# Altium footprint library ARMBands_Components_PCB.PcbLib: 12 footprints
Each footprint in its own frame and in the unit in brackets; x right, y up, seen from the top. Pads: shape width x height; smd on the part's side, far side on the other; paste and mask are expansions set on the pad; w line width, h text height; cw(c..) or ccw(c..) is an arc to the next point about the centre after c.
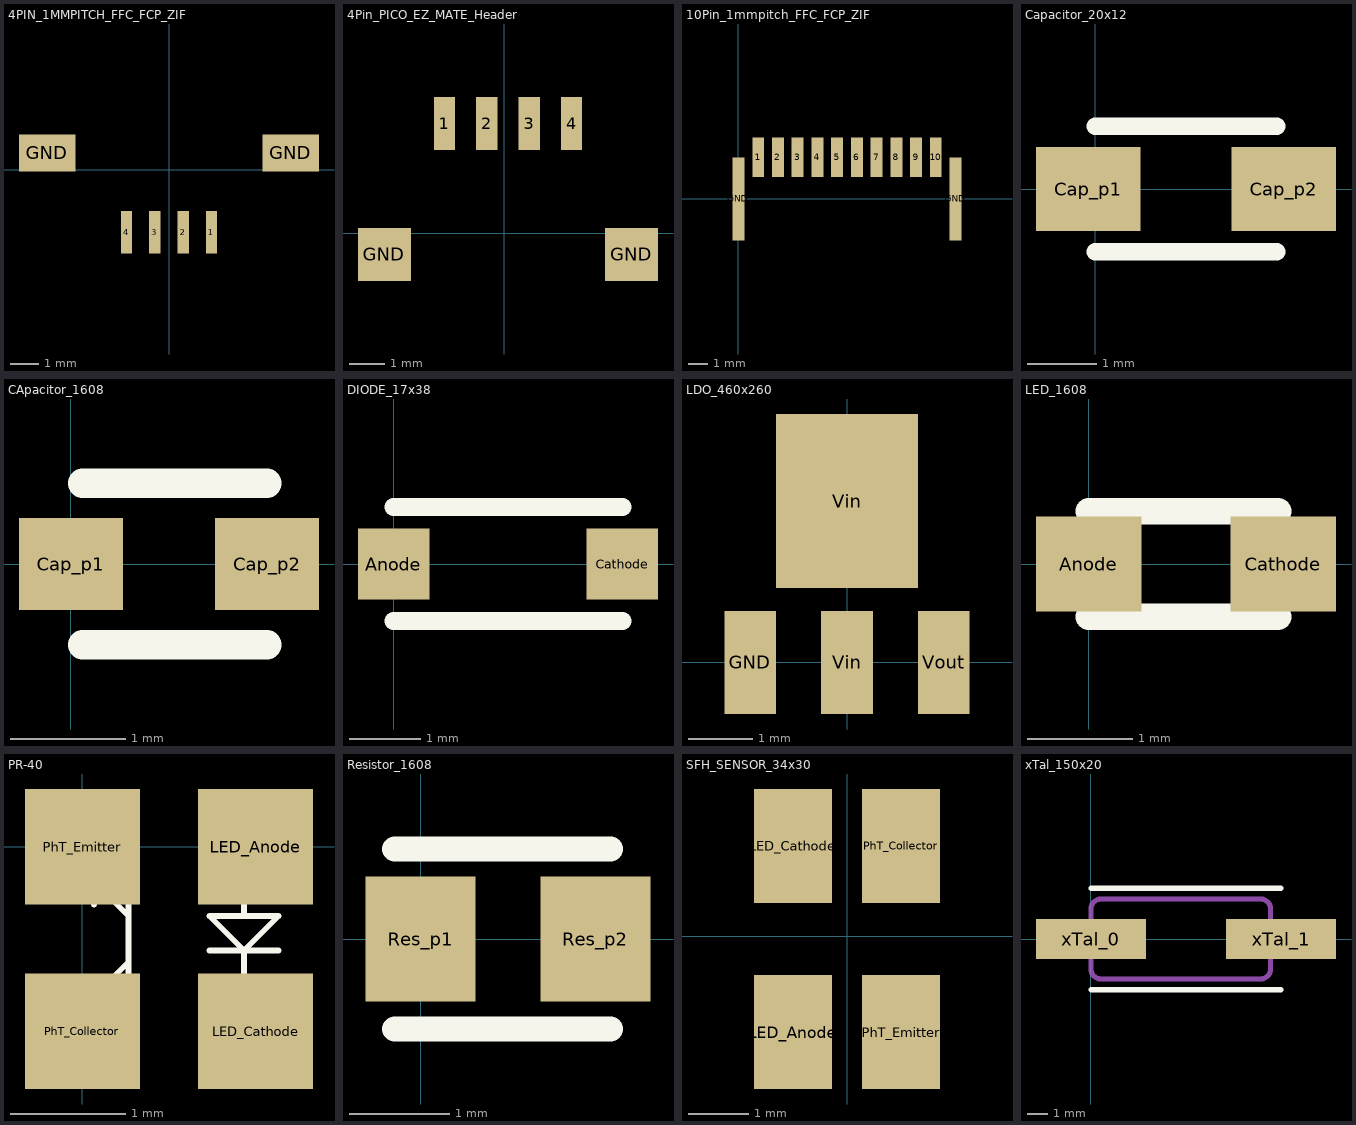
[diagram p0: the footprints below, top view; thin cyan lines are the x and y axes]

## 4PIN_1MMPITCH_FFC_FCP_ZIF [mm]
pads (6):
  rect 0.4x1.5 smd: 1(1.5,-2.2) 2(0.5,-2.2) 3(-0.5,-2.2) 4(-1.5,-2.2)
  rect 2x1.3 smd: GND(-4.3,0.6) GND(4.3,0.6)
3D body "2005290040.stp": height 1.88, standoff -0.08, extent -5,-2.55 5,2.75

## 4Pin_PICO_EZ_MATE_Header [mm]
pads (6):
  rect 0.6x1.5 smd: 1(-1.7,3.1) 2(-0.5,3.1) 3(0.7,3.1) 4(1.9,3.1)
  rect 1.5x1.5 smd: GND(-3.4,-0.6) GND(3.6,-0.6)
3D body "781710004.stp": height 1.55, standoff 0.1, extent -3.3,-1.5 3.3,3.03

## 10Pin_1mmpitch_FFC_FCP_ZIF [mm]
pads (12):
  rect 0.6x2 smd: 1(1,2.1) 2(2,2.1) 3(3,2.1) 4(4,2.1) 5(5,2.1) 6(6,2.1) 7(7,2.1) 8(8,2.1) 9(9,2.1) 10(10,2.1)
  rect 0.6x4.2 smd: GND(0,0) GND(11,0)
3D body: height 1, standoff 0, extent 0,-2.5 11,1.6

## Capacitor_20x12 [mm]
pads (2):
  rect 1.5x1.2 smd: Cap_p1(-0.1,0) Cap_p2(2.7,0)
Top Overlay:
  lines w0.254: 0,-0.9 2.6,-0.9 ; 0,0.9 2.6,0.9
3D body: height 1.5, standoff 0, extent -0.4,-0.7 0.2,0.7
3D body: height 1.5, standoff 0, extent 0.2,-0.7 2.45,0.7
3D body: height 1.5, standoff 0, extent 2.45,-0.7 2.95,0.7

## CApacitor_1608 [mm]
pads (2):
  rect 0.9x0.8 smd: Cap_p1(0,0) Cap_p2(1.7,0)
Top Overlay:
  lines w0.254: 0.1,-0.7 1.7,-0.7 ; 0.1,0.7 1.7,0.7
3D body: height 1.5, standoff 0, extent 0.1,-0.5 1.6,0.5
3D body: height 1.5, standoff 0, extent -0.3,-0.5 0.1,0.5
3D body: height 1.5, standoff 0, extent 1.6,-0.5 2,0.5

## DIODE_17x38 [mm]
pads (2):
  rect 1x1 smd: Anode(0,0) Cathode(3.2,0)
Top Overlay:
  lines w0.254: 0,-0.8 3.2,-0.8 ; 0,0.8 3.2,0.8
3D body: height 1.5, standoff 0, extent 0.7,-0.8 2.5,0.8
3D body: height 1.5, standoff 0, extent 0.2,-0.8 0.7,0.8
3D body: height 1.5, standoff 0, extent 2.5,-0.8 3,0.8

## LDO_460x260 [mm]
pads (4):
  rect 0.8x1.6 smd: GND(-1.5,0) Vin(0,0) Vout(1.5,0)
  rect 2.2x2.7 smd: Vin(0,2.5)
3D body: height 1.6, standoff 0, extent -2.5,0 2.5,2.2

## LED_1608 [mm]
pads (2):
  rect 1x0.9 smd: Anode(0,0) Cathode(1.85,0)
Top Overlay:
  lines w0.254: 0,-0.5 1.8,-0.5 ; 0,0.5 1.8,0.5
3D body: height 0.25, standoff 0, extent 0,-0.4 1.8,0.4
3D body: height 0.55, standoff 0, extent 0.2,-0.4 1.6,0.4
3D body: height 0.9, standoff 0.2, extent 0.55,-0.347 1.25,0.347

## PR-40 [mm]
pads (4):
  rect 1x1 smd: LED_Anode(1.5,0) LED_Cathode(1.5,-1.6) PhT_Collector(0,-1.6) PhT_Emitter(0,0)
Top Overlay:
  lines w0.05: 0.1,-1.8 0.1,-1.4 0.1,-1.3 0.4,-1 0.4,-0.6 0.1,-0.3 ; 0.1,-0.5 0.1,-0.3 ; 0.1,0.2 0.1,-0.3 ; 0.3,-0.3 0.1,-0.3 ; 0.4,-1.2 0.4,-0.4 ; 1.1,-0.9 1.4,-0.9 ; 1.4,-1.8 1.4,-0.9 ; 1.4,-0.6 1.4,0.2 ; 1.7,-0.9 1.4,-0.9 ; 1.4,-0.9 1.7,-0.6 1.1,-0.6 1.4,-0.9 ; 1.4,-0.9 1.4,-0.9
3D body: height 0.6, standoff 0, extent -0.3,-1.9 1.8,0.3

## Resistor_1608 [mm]
pads (2):
  rect 1.1x1.25 smd: Res_p1(0,0) Res_p2(1.75,0)
Top Overlay:
  lines w0.254: -0.259,-0.9 1.9,-0.9 ; -0.259,0.9 1.9,0.9
3D body: height 1.5, standoff 0, extent 0,-0.7 1.75,0.7
3D body: height 1.5, standoff 0, extent -0.4,-0.7 0,0.7
3D body: height 1.5, standoff 0, extent 1.75,-0.7 2.2,0.7

## SFH_SENSOR_34x30 [mm]
pads (4):
  rect 1.3x1.9 smd: LED_Anode(-0.9,-1.6) LED_Cathode(-0.9,1.5) PhT_Collector(0.9,1.5) PhT_Emitter(0.9,-1.6)
3D body: height 1.8, standoff 0, extent -1.6,1.4 1.6,1.6
3D body: height 1.8, standoff 0, extent -1.6,-1.8 -1.4,1.4
3D body: height 1.8, standoff 0, extent -1.6,-1.8 1.6,-1.6
3D body: height 1.8, standoff 0, extent 1.4,-1.8 1.6,1.6
3D body: height 1.3, standoff 0, extent -1.4,-1.6 1.4,1.4
3D body: height 1.8, standoff 0, extent -1.4,-0.1 1.4,0.1
3D body: height 1.8, standoff 0, extent -0.1,-1.6 0.1,1.5
3D body: height 1.6, standoff 1, extent 0.3,0.302 0.9,0.898
3D body: height 1.6, standoff 1, extent -0.9,-0.898 -0.3,-0.302

## xTal_150x20 [mm]
pads (2):
  rect 5.5x2 smd: xTal_0(0,0) xTal_1(9.525,0)
Top Overlay:
  lines w0.254: 0,-2.54 9.525,-2.54 ; 0,2.54 9.525,2.54
Mechanical 1:
  lines w0.254: 0,-1.5 ccw(c0.5,-1.5) 0.5,-2 8.5,-2 ccw(c8.5,-1.5) 9,-1.5 9,1.5 ccw(c8.5,1.5) 8.5,2 0.5,2 ccw(c0.5,1.5) 0,1.5 0,-1.5
3D body: height 2.5, standoff 0, extent -0.092,0.102 1.9,2.098
3D body: height 2.5, standoff 0, extent -0.1,-2.098 1.892,-0.102
3D body: height 2.5, standoff 0, extent 7.108,-2.098 9.1,-0.102
3D body: height 2.5, standoff 0, extent 7.108,0.104 9.1,2.1
3D body: height 2.5, standoff 0, extent 1,-2.098 8.104,2.1
3D body: height 2.5, standoff 0, extent -0.1,-1.1 1.002,1.1
3D body: height 2.5, standoff 0, extent 8.1,-1.1 9.1,1.1